# Altium schematic symbol library FM25V.Schlib: 1 symbol
Pins are listed as number, name and electrical type; pins without a type are passive.

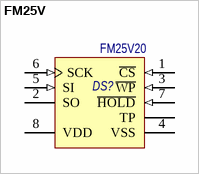
[diagram p0: symbol FM25V]

## FM25V
designator DS?, comment FM25V20
2Mb Serial 3V FRAM Memory; Потребление, Вт: 0,009; Назначение: 2Mb Serial 3V FRAM Memory; ComponentLink1Description: Datasheet; ComponentLink1URL: https://www.cypress.com/file/136456/download; Наименование: FM25V20
footprint TDFN-8_6x5 (TDFN 8-pin 6x5mm)
pins: 1 ~{CS} (in) "Chip Select. This active LOW input activates the device. When HIGH, the device enters low-power standby mode, ignores other inputs, and the output is tristated. When LOW, the device internally activates the SCK signal. A (See Datasheet)", 2 SO (hiz) "Serial Output.This is the data output pin. It is driven during a read and remains tristated at all other times including when H\O\L\D\ is LOW. Data transitions are driven on the falling edge of the serial clock.", 3 ~{WP} (in) "Write Protect.This Active LOW pin prevents write operation to the Status Register when WPEN is set to ‘1’. This is critical because other write protection features are controlled through the Status Register.", 4 VSS (power) "Ground for the device. Must be connected to the ground of the system.", 5 SI (in) "Serial Input. All data is input to the device on this pin. The pin is sampled on the rising edge of SCK and is ignored at other times. It should always be driven to a valid logic level to meet IDD specifications", 6 SCK (in) "Serial Clock. All I/O activity is synchronized to the serial clock. Inputs are latched on the rising edge and outputs occur on the falling edge. Because the device is synchronous, the clock frequency may be any value between (See Datasheet)", 7 ~{HOLD} (in) "H\O\L\D\ Pin.The H\O\L\D\ pin is used when the host CPU must interrupt a memory operation for another task. When H\O\L\D\ is LOW, the current operation is suspended. The device ignores any transition on SCK or CS. All (See Datasheet)", 8 VDD (power) "Power supply input to the device.", TP (power) "Ground for the device. Must be connected to the ground of the system."